# Altium integrated library 1201M2S3AQE2.IntLib: 1 symbol
Pins are listed as number, name and electrical type; pins without a type are passive.

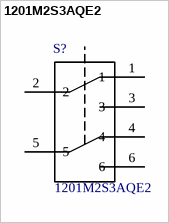
[diagram p0: symbol 1201M2S3AQE2]

## 1201M2S3AQE2
designator S?
Switch Slide ON None ON DPDT Side Slide 6A 250VAC 28VDC PC Pins Bracket Mount/Through Hole; MF: C&K; SnapEDA_Link: https://www.snapeda.com/parts/1201M2S3AQE2/C%26K/view-part/?ref=snap; Availability: Unavailable; Price: None; MP: 1201M2S3AQE2; Package: None; Value: *
footprint *SW_1201M2S3AQE2
pins: 1, 2, 3, 4, 5, 6